# Altium schematic symbol library TPS2044BDR.SchLib: 1 symbol
Pins are listed as number, name and electrical type; pins without a type are passive.

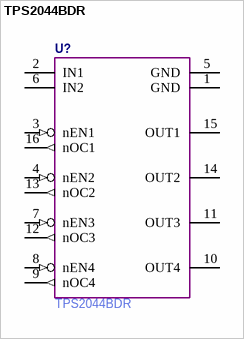
[diagram p0: symbol TPS2044BDR]

## TPS2044BDR
designator U?  Manufacturer Part Number: TPS2044BDR  (hidden comment: *)
pins: 1 GND (power), 2 IN1 (power), 3 nEN1 (in) "3V3 / 5V0", 4 nEN2 (in) "3V3 / 5V0", 5 GND (power), 6 IN2 (power), 7 nEN3 (in) "3V3 / 5V0", 8 nEN4 (in) "3V3 / 5V0", 9 nOC4 (out), 10 OUT4 (power), 11 OUT3 (power), 12 nOC3 (out), 13 nOC2 (out), 14 OUT2 (power), 15 OUT1 (power), 16 nOC1 (out)